# Altium schematic symbol library VARISTOR.SchLib: 1 symbol
Pins are listed as number, name and electrical type; pins without a type are passive.

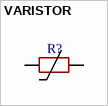
[diagram p0: symbol VARISTOR]

## VARISTOR
designator R?
footprint VARISTOR
footprint VARISTOR
pins: 1, 2